# Altium footprint library PcbLib1.PcbLib: 8 footprints
Each footprint in its own frame and in the unit in brackets; x right, y up, seen from the top. Pads: shape width x height; smd on the part's side, far side on the other; paste and mask are expansions set on the pad; w line width, h text height; cw(c..) or ccw(c..) is an arc to the next point about the centre after c.
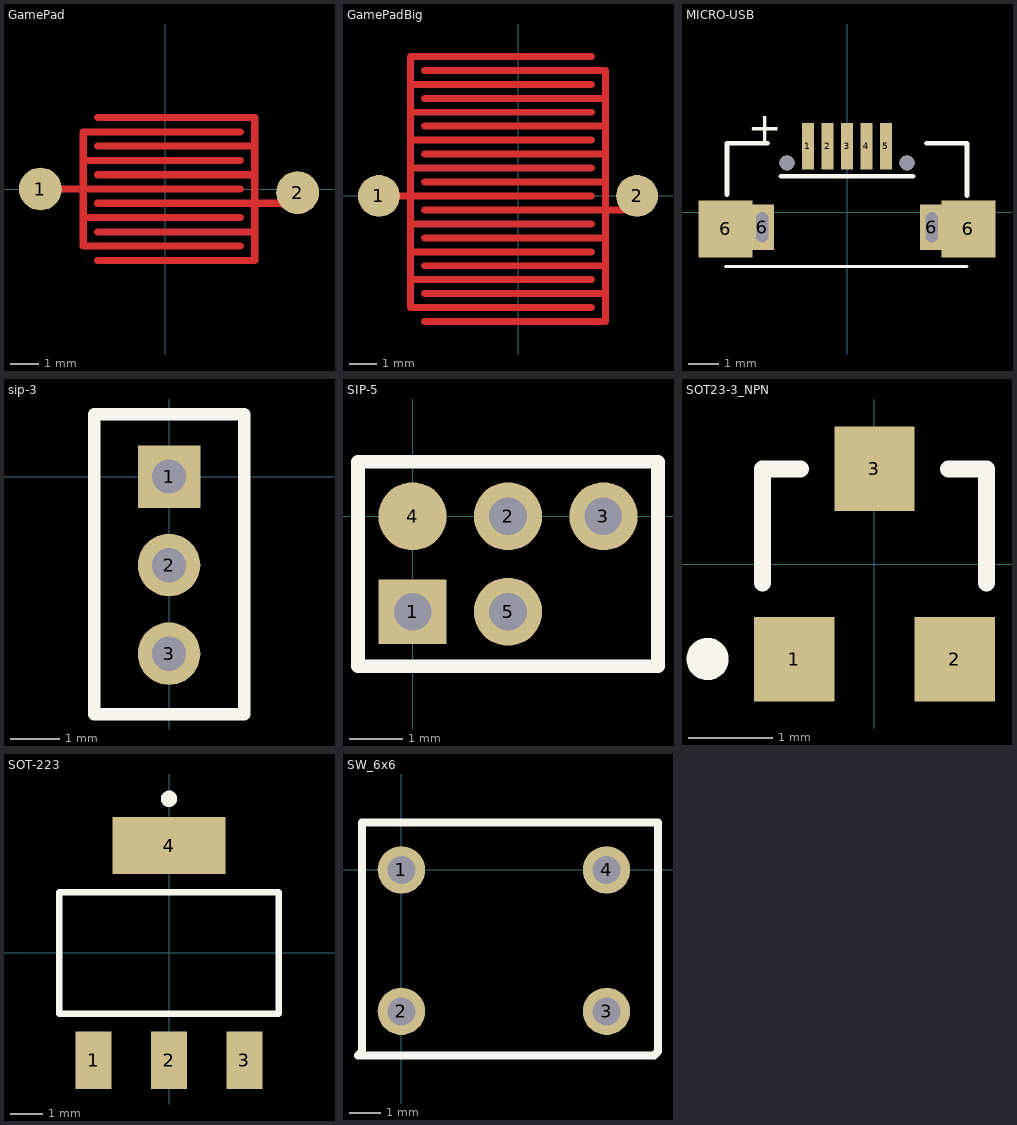
[diagram p0: the footprints below, top view; thin cyan lines are the x and y axes]

## GamePad [mil] "game pad"
pads (2):
  round 60 smd: 1(-175,0) 2(185,-5)
Top Layer:
  lines w10: -175,0 -115,0 105,0 ; -115,40 105,40 ; -95,-100 125,-100 125,-60 ; -95,-60 125,-60 ; -95,-20 120,-20 125,-25 125,-60 ; -95,20 120,20 ; -95,60 125,60 125,-15 ; -95,100 125,100 125,50 ; 105,-80 -115,-80 -115,-40 ; 105,-40 -115,-40 ; 105,80 -90,80 -115,80 -115,-40 ; 125,-35 125,0 ; 125,-20 185,-20
Top Solder:
  rectangle: -125,-110 135,110

## GamePadBig [mil] "game pad"
pads (2):
  round 60 smd: 1(-200,0) 2(170,0)
Top Layer:
  lines w10: -200,0 -165,0 105,0 ; -155,-80 105,-80 ; -155,40 105,40 ; -155,70 -155,120 ; -135,-180 125,-180 125,-140 ; -135,-140 125,-140 ; -135,-100 125,-100 ; -135,-60 125,-60 ; -135,-20 120,-20 ; -135,20 120,20 ; -135,60 125,60 125,-15 ; -135,100 125,100 ; -135,140 125,140 ; -135,180 125,180 125,140 ; 105,-160 -155,-160 -155,-120 ; 105,-120 -155,-120 ; 105,-40 -155,-40 ; 105,80 -90,80 -155,80 -155,0 -155,-40 ; 105,120 -155,120 ; 105,160 -155,160 ; 105,200 -155,200 -155,160 ; 125,-35 125,-20 160,-20 170,-10 ; 125,0 125,-60 ; 125,50 125,100 ; -155,-120 -155,-40 ; -155,120 -155,160 ; 125,-140 125,-100 ; 125,-100 125,-60 ; 125,100 125,140
Top Solder:
  rectangle: -165,-190 135,210

## MICRO-USB [mm]
pads (11):
  rect 0.4x1.55 smd: 1(-1.3,2.2) 2(-0.65,2.2) 3(0,2.2) 4(0.65,2.2) 5(1.3,2.2)
  rect 1.8x1.9 smd: 6(-4.05,-0.55) 6(4.05,-0.55)
  rect 0.8x1.5 hole 0.4 slot 1 at 90 deg: 6(-2.825,-0.5) 6(2.825,-0.5)
  round 0.5 hole 0.5 unplated: ""(-2,1.65) ""(2,1.65)
Top Overlay:
  lines w0.1: -4.05,-1.8 4,-1.8
  lines w0.152: -4,0.584 -4,2.3 -2.65,2.3 ; -2.2,1.2 2.2,1.2 ; 2.65,2.3 4,2.3 4,0.55
  text "+" at -3.3,2.35 h1
Keep-Out Layer:
  lines w0.127: -3.054,-1.043 -2.596,-1.043 -2.596,0.075 -3.054,0.075 -3.054,-1.043 ; 2.596,-1.043 3.054,-1.043 3.054,0.075 2.596,0.075 2.596,-1.043
Mechanical 1:
  lines w0.127: -3.054,-1.043 -3.054,0.075 -2.596,0.075 -2.596,-1.043 -3.054,-1.043 ; 2.596,-1.043 2.596,0.075 3.054,0.075 3.054,-1.043 2.596,-1.043

## sip-3 [mm] "sip-3"
pads (3):
  rect 1.27x1.27 hole 0.7: 1(0,0)
  round 1.27 hole 0.7: 2(0,-1.8) 3(0,-3.6)
Top Overlay:
  lines w0.254: -1.524,-4.826 -1.524,1.27 1.524,1.27 1.524,-4.826 -1.524,-4.826

## SIP-5 [mm] "SIP5"
pads (5):
  rect 1.27x1.2 hole 0.7: 1(0,-1.778)
  round 1.27 hole 0.7: 2(1.778,0) 3(3.556,0) 5(1.778,-1.778)
  round 1.27 smd: 4(0,0)
Top Overlay:
  lines w0.254: -1.016,-2.794 -1.016,1.016 4.572,1.016 4.572,-2.794 1.397,-2.794 -1.016,-2.794

## SOT23-3_NPN [mm] "SOT-23; 3 Leads; Body 3.0 x 2.5 mm, inc. leads (LxW max)"
height 1.2
pads (3):
  rect 0.95x1 smd: 1(-0.95,-1.125) 2(0.95,-1.125) 3(0,1.125)
Top Overlay:
  circle w0.25: c-1.975,-1.125 r0.125
  lines w0.2: -1.328,1.125 -0.875,1.125 ; -1.325,-0.225 -1.325,1.125 ; 0.875,1.125 1.325,1.125 1.325,-0.225

## SOT-223 [mm] "SOT-223/SC-73; 4 Leads; Body 6.7 x 7.3 mm, inc. leads (LxW max)"
height 1.7
pads (4):
  rect 1.1x1.75 smd: 1(-2.3,-3.275) 2(0,-3.275) 3(2.3,-3.275)
  rect 3.45x1.75 smd: 4(0,3.275)
Top Overlay:
  circle w0.25: c0,4.7 r0.125
  lines w0.2: -3.35,-1.85 3.35,-1.85 3.35,1.85 -3.35,1.85 -3.35,-1.85

## SW_6x6 [mm] "6x6 touch switch"
pads (4):
  round 1.524 hole 0.9: 1(0,0) 2(0,-4.55) 3(6.6,-4.55) 4(6.6,0)
Top Overlay:
  lines w0.254: -1.397,-5.969 -1.27,-5.842 -1.27,1.524 8.255,1.524 8.255,-5.842 8.128,-5.969 -1.397,-5.969